# Altium footprint library PcbLib1.PcbLib: 3 footprints
Each footprint in its own frame and in the unit in brackets; x right, y up, seen from the top. Pads: shape width x height; smd on the part's side, far side on the other; paste and mask are expansions set on the pad; w line width, h text height; cw(c..) or ccw(c..) is an arc to the next point about the centre after c.
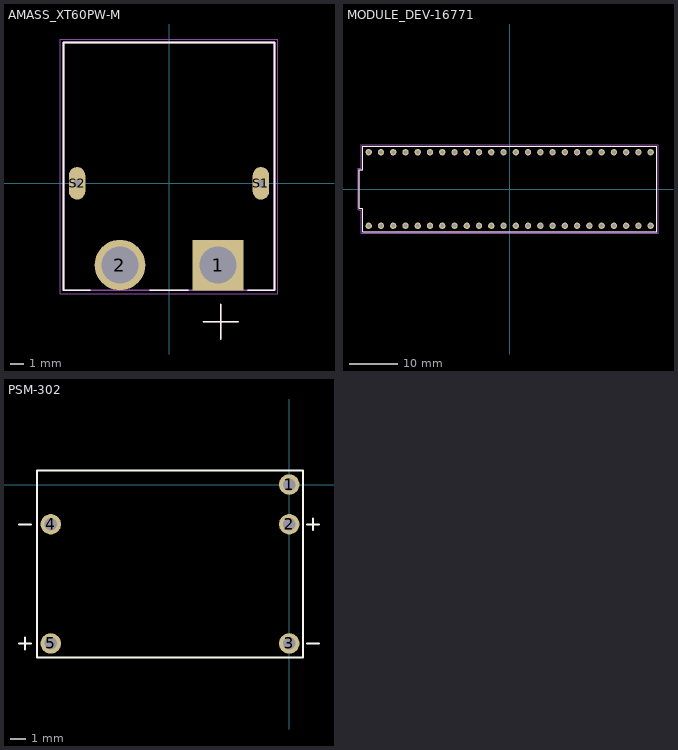
[diagram p0: the footprints below, top view; thin cyan lines are the x and y axes]

## AMASS_XT60PW-M [mm]
height 8.4
pads (4):
  rect 3.716x3.716 hole 2.7: 1(3.6,-6)
  round 3.716 hole 2.7: 2(-3.6,-6)
  oval 1.2x2.4 hole 0.6 square: S1(6.75,0) S2(-6.75,0)
Top Overlay:
  lines w0.127: -5.778,-7.85 -7.75,-7.85 -7.75,10.35 7.75,10.35 7.75,-7.85 5.778,-7.85 ; -1.422,-7.85 1.422,-7.85 ; 2.54,-10.16 3.81,-10.16 ; 3.81,-11.43 3.81,-10.16 ; 3.81,-8.89 3.81,-10.16 ; 5.08,-10.16 3.81,-10.16
Mechanical 13:
  lines w0.127: 2.54,-10.16 3.81,-10.16 ; 3.81,-11.43 3.81,-10.16 ; 3.81,-8.89 3.81,-10.16 ; 5.08,-10.16 3.81,-10.16 ; -7.75,-7.85 7.75,-7.85 7.75,10.35 -7.75,10.35 -7.75,-7.85
Mechanical 15:
  lines w0.05: -8,-8.11 8,-8.11 8,10.6 -8,10.6 -8,-8.11
3D body "step_temp.STEP": height 8.4, standoff -2.55, extent -7.75,-7.85 7.75,10.35

## MODULE_DEV-16771 [mm]
height 4.07
pads (48):
  round 1.308 hole 0.8: 1(-29.21,-7.62) 2(-26.67,-7.62) 3(-24.13,-7.62) 4(-21.59,-7.62) 5(-19.05,-7.62) 6(-16.51,-7.62) 7(-13.97,-7.62) 8(-11.43,-7.62) 9(-8.89,-7.62) 10(-6.35,-7.62) 11(-3.81,-7.62) 12(-1.27,-7.62) 13(1.27,-7.62) 14(3.81,-7.62) 15(6.35,-7.62) 16(8.89,-7.62) 17(11.43,-7.62) 18(13.97,-7.62) 19(16.51,-7.62) 20(19.05,-7.62) 21(21.59,-7.62) 22(24.13,-7.62) 23(26.67,-7.62) 24(29.21,-7.62) 25(29.21,7.62) 26(26.67,7.62) 27(24.13,7.62) 28(21.59,7.62) 29(19.05,7.62) 30(16.51,7.62) 31(13.97,7.62) 32(11.43,7.62) 33(8.89,7.62) 34(6.35,7.62) 35(3.81,7.62) 36(1.27,7.62) 37(-1.27,7.62) 38(-3.81,7.62) 39(-6.35,7.62) 40(-8.89,7.62) 41(-11.43,7.62) 42(-13.97,7.62) 43(-16.51,7.62) 44(-19.05,7.62) 45(-21.59,7.62) 46(-24.13,7.62) 47(-26.67,7.62) 48(-29.21,7.62)
Top Overlay:
  lines w0.127: -31.18,-4.03 -30.48,-4.03 -30.48,-8.89 30.48,-8.89 30.48,8.89 -30.48,8.89 -30.48,4.03 -31.18,4.03 -31.18,-4.03
Mechanical 13:
  lines w0.127: -31.18,-4.03 -30.48,-4.03 -30.48,-8.89 30.48,-8.89 30.48,8.89 -30.48,8.89 -30.48,4.03 -31.18,4.03 -31.18,-4.03
  text "Teensy 4.1" at -3.683,1.397 h1.27
Mechanical 15:
  lines w0.05: -31.43,-4.28 -30.73,-4.28 -30.73,-9.14 30.73,-9.14 30.73,9.14 -30.73,9.14 -30.73,4.28 -31.43,4.28 -31.43,-4.28
3D body "step_temp.STEP": height 7.15, standoff -6.7, extent -31.211,-8.89 30.449,8.89

## PSM-302 [mm]
pads (5):
  round 1.308 hole 0.8: 1(0,0) 2(0,-2.54) 3(0,-10.16) 4(-15.24,-2.54) 5(-15.24,-10.16)
Top Overlay:
  lines w0.127: -17.272,-10.16 -16.51,-10.16 ; -17.272,-2.54 -16.51,-2.54 ; -16.891,-10.541 -16.891,-9.779 ; 1.143,-10.16 1.905,-10.16 ; 1.143,-2.54 1.905,-2.54 ; 1.524,-2.921 1.524,-2.159 ; -16.129,-11.049 0.889,-11.049 0.889,0.889 -16.129,0.889 -16.129,-11.049